# Altium footprint library 691 313 710 0xx.PcbLib: 6 footprints
Each footprint in its own frame and in the unit in brackets; x right, y up, seen from the top. Pads: shape width x height; smd on the part's side, far side on the other; paste and mask are expansions set on the pad; w line width, h text height; cw(c..) or ccw(c..) is an arc to the next point about the centre after c.
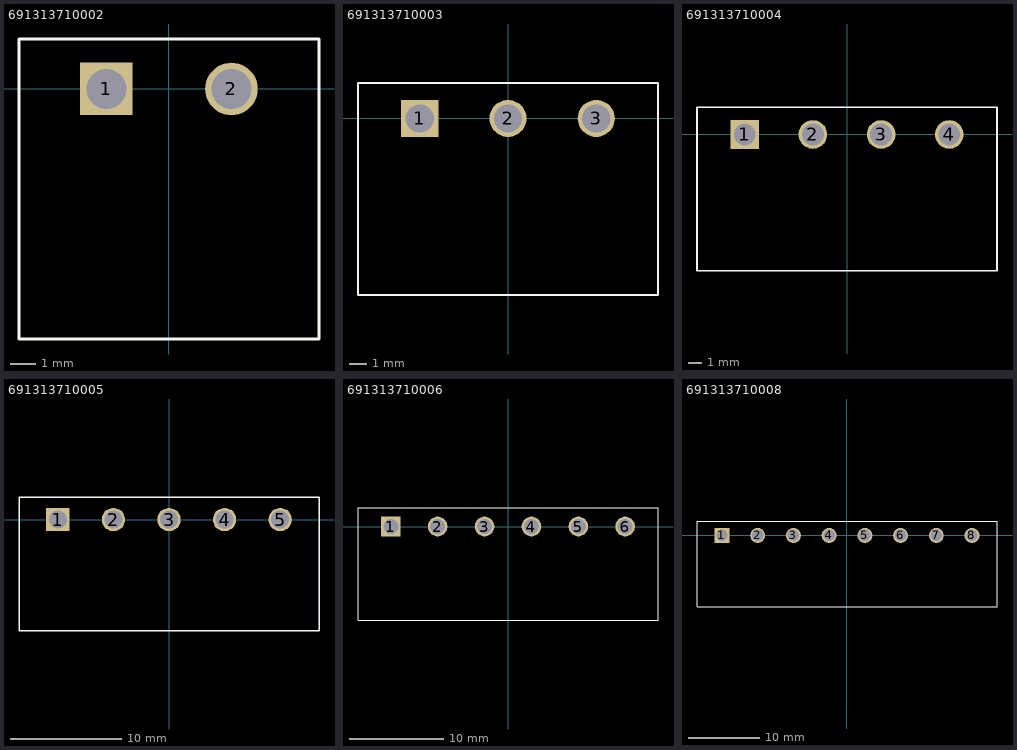
[diagram p0: the footprints below, top view; thin cyan lines are the x and y axes]

## 691313710002 [mm] "5.00mm - Closed Horizhontal PCB Header - -02p"
height 8.5
pads (2):
  rect 2.1x2.1 hole 1.6: 1(-2.5,0)
  round 2.1 hole 1.6: 2(2.5,0)
Top Overlay:
  lines w0.127: -6,-10 6,-10 6,2 -6,2 -6,-10
3D body: height 8.56, standoff -3.44, extent -6,-10 6,2

## 691313710003 [mm] "5.00mm - Closed Horizhontal PCB Header - -03p"
height 8.5
pads (3):
  rect 2.1x2.1 hole 1.6: 1(-5,0)
  round 2.1 hole 1.6: 2(0,0) 3(5,0)
Top Overlay:
  lines w0.127: -8.5,-10 -8.5,2 8.5,2 8.5,-10 -8.5,-10
3D body: height 8.56, standoff -3.44, extent -8.5,-10 8.5,2

## 691313710004 [mm] "5.00mm - Closed Horizhontal PCB Header - -04p"
height 8.5
pads (4):
  rect 2.1x2.1 hole 1.6: 1(-7.5,0)
  round 2.1 hole 1.6: 2(-2.5,0) 3(2.5,0) 4(7.5,0)
Top Overlay:
  lines w0.127: -11,-10 11,-10 11,2 -11,2 -11,-10
3D body: height 8.56, standoff -3.44, extent -11,-10 11,2

## 691313710005 [mm] "5.00mm - Closed Horizhontal PCB Header - -05p"
height 8.5
pads (5):
  rect 2.1x2.1 hole 1.6: 1(-10,0)
  round 2.1 hole 1.6: 2(-5,0) 3(0,0) 4(5,0) 5(10,0)
Top Overlay:
  lines w0.127: -13.5,-10 13.5,-10 13.5,2 -13.5,2 -13.5,-10
3D body: height 8.56, standoff -3.44, extent -13.5,-10 13.5,2

## 691313710006 [mm] "5.00mm - Closed Horizhontal PCB Header - -06p"
height 8.5
pads (6):
  rect 2.1x2.1 hole 1.6: 1(-12.5,0)
  round 2.1 hole 1.6: 2(-7.5,0) 3(-2.5,0) 4(2.5,0) 5(7.5,0) 6(12.5,0)
Top Overlay:
  lines w0.127: -16,-10 16,-10 16,2 -16,2 -16,-10
3D body: height 8.56, standoff -3.44, extent -16,-10 16,2

## 691313710008 [mm] "5.00mm - Closed Horizhontal PCB Header - -08p"
height 8.5
pads (8):
  rect 2.1x2.1 hole 1.6: 1(-17.5,0)
  round 2.1 hole 1.6: 2(-12.5,0) 3(-7.5,0) 4(-2.5,0) 5(2.5,0) 6(7.5,0) 7(12.5,0) 8(17.5,0)
Top Overlay:
  lines w0.127: -21,-10 -21,2 21,2 21,-10 -21,-10
3D body: height 8.56, standoff -3.44, extent -21,-10 21,2